# EAGLE library part PIC18F4X2 (library !testpic)
Pic Microcontroller
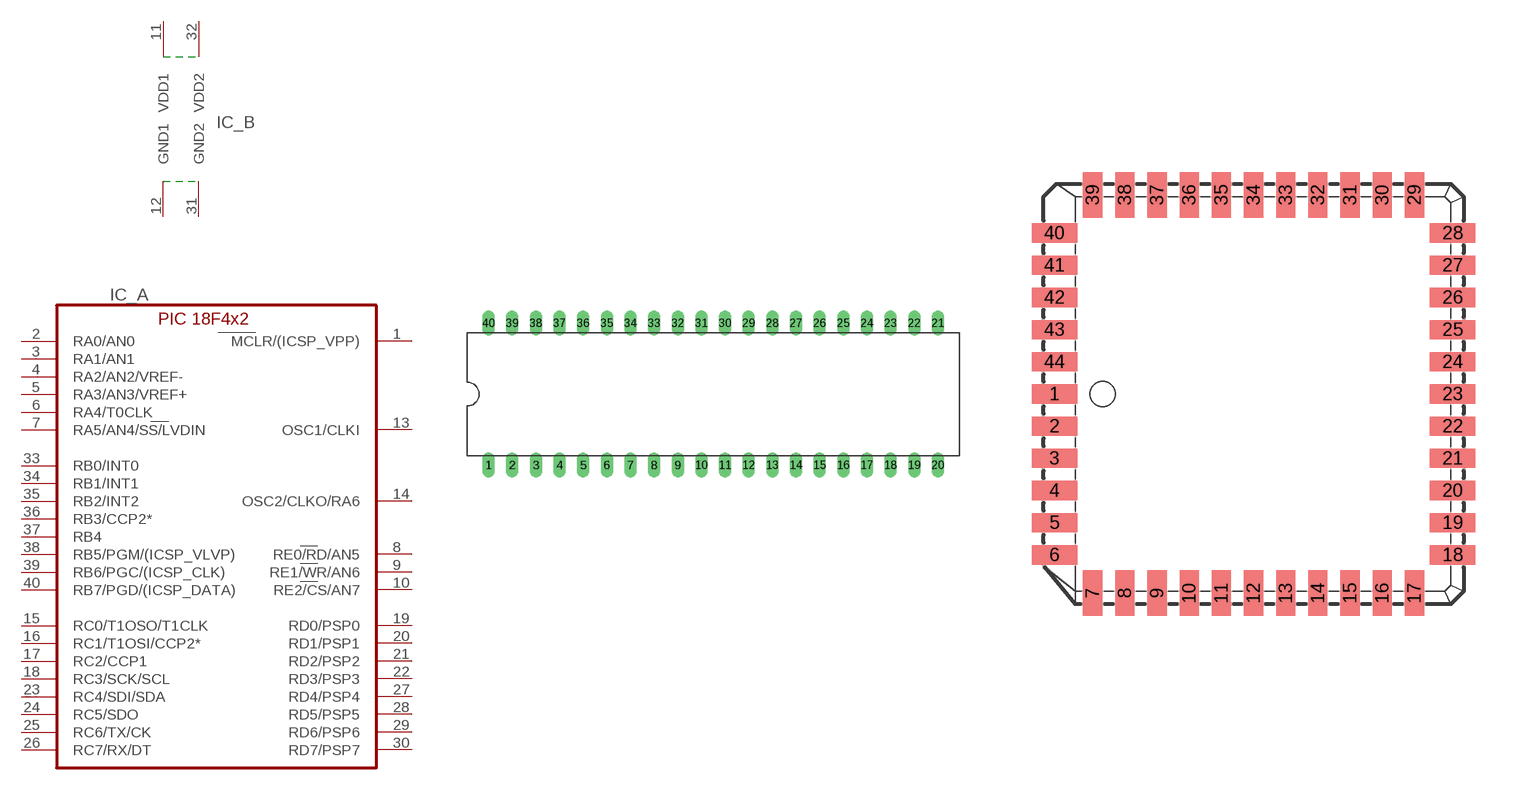
[diagram p0: symbol with the pads of DIL40; footprints DIL40, PLCC44]

Designator prefix IC; gates _A=PIC18F4X2 _B=VCCGND

## PIC18F4X2DIL40  [DIL40]
1  _A:MCLR/(ICSP_VPP)  pwr
2  _A:RA0/AN0
3  _A:RA1/AN1
4  _A:RA2/AN2/VREF-
5  _A:RA3/AN3/VREF+
6  _A:RA4/T0CLK
7  _A:RA5/AN4/SS/LVDIN
8  _A:RE0/RD/AN5
9  _A:RE1/WR/AN6
10  _A:RE2/CS/AN7
11  _B:VDD1  pwr
12  _B:GND1  pwr
13  _A:OSC1/CLKI  pwr
14  _A:OSC2/CLKO/RA6  pwr
15  _A:RC0/T1OSO/T1CLK
16  _A:RC1/T1OSI/CCP2*
17  _A:RC2/CCP1
18  _A:RC3/SCK/SCL
19  _A:RD0/PSP0
20  _A:RD1/PSP1
21  _A:RD2/PSP2
22  _A:RD3/PSP3
23  _A:RC4/SDI/SDA
24  _A:RC5/SDO
25  _A:RC6/TX/CK
26  _A:RC7/RX/DT
27  _A:RD4/PSP4
28  _A:RD5/PSP5
29  _A:RD6/PSP6
30  _A:RD7/PSP7
31  _B:GND2  pwr
32  _B:VDD2  pwr
33  _A:RB0/INT0
34  _A:RB1/INT1
35  _A:RB2/INT2
36  _A:RB3/CCP2*
37  _A:RB4
38  _A:RB5/PGM/(ICSP_VLVP)
39  _A:RB6/PGC/(ICSP_CLK)
40  _A:RB7/PGD/(ICSP_DATA)

## PIC18F4X2PLCC44  [PLCC44]
2  _A:MCLR/(ICSP_VPP)  pwr
3  _A:RA0/AN0
4  _A:RA1/AN1
5  _A:RA2/AN2/VREF-
6  _A:RA3/AN3/VREF+
7  _A:RA4/T0CLK
8  _A:RA5/AN4/SS/LVDIN
9  _A:RE0/RD/AN5
10  _A:RE1/WR/AN6
11  _A:RE2/CS/AN7
12  _B:VDD1  pwr
13  _B:GND1  pwr
14  _A:OSC1/CLKI  pwr
15  _A:OSC2/CLKO/RA6  pwr
16  _A:RC0/T1OSO/T1CLK
18  _A:RC1/T1OSI/CCP2*
19  _A:RC2/CCP1
20  _A:RC3/SCK/SCL
21  _A:RD0/PSP0
22  _A:RD1/PSP1
23  _A:RD2/PSP2
24  _A:RD3/PSP3
25  _A:RC4/SDI/SDA
26  _A:RC5/SDO
27  _A:RC6/TX/CK
29  _A:RC7/RX/DT
30  _A:RD4/PSP4
31  _A:RD5/PSP5
32  _A:RD6/PSP6
33  _A:RD7/PSP7
34  _B:GND2  pwr
35  _B:VDD2  pwr
36  _A:RB0/INT0
37  _A:RB1/INT1
38  _A:RB2/INT2
39  _A:RB3/CCP2*
41  _A:RB4
42  _A:RB5/PGM/(ICSP_VLVP)
43  _A:RB6/PGC/(ICSP_CLK)
44  _A:RB7/PGD/(ICSP_DATA)

## PIC18F4X2PLCC_SMD-SOCKET  [PLCCSM44]
Pads as for PLCC44

## PIC18F4X2PLCC_SOCKET  [S44]
Pads as for PLCC44

## PIC18F4X2TQFP44  [TQFP44]
1  _A:RC7/RX/DT
2  _A:RD4/PSP4
3  _A:RD5/PSP5
4  _A:RD6/PSP6
5  _A:RD7/PSP7
6  _B:GND1  pwr
7  _B:VDD1  pwr
8  _A:RB0/INT0
9  _A:RB1/INT1
10  _A:RB2/INT2
11  _A:RB3/CCP2*
14  _A:RB4
15  _A:RB5/PGM/(ICSP_VLVP)
16  _A:RB6/PGC/(ICSP_CLK)
17  _A:RB7/PGD/(ICSP_DATA)
18  _A:MCLR/(ICSP_VPP)  pwr
19  _A:RA0/AN0
20  _A:RA1/AN1
21  _A:RA2/AN2/VREF-
22  _A:RA3/AN3/VREF+
23  _A:RA4/T0CLK
24  _A:RA5/AN4/SS/LVDIN
25  _A:RE0/RD/AN5
26  _A:RE1/WR/AN6
27  _A:RE2/CS/AN7
28  _B:VDD2  pwr
29  _B:GND2  pwr
30  _A:OSC1/CLKI  pwr
31  _A:OSC2/CLKO/RA6  pwr
32  _A:RC0/T1OSO/T1CLK
35  _A:RC1/T1OSI/CCP2*
36  _A:RC2/CCP1
37  _A:RC3/SCK/SCL
38  _A:RD0/PSP0
39  _A:RD1/PSP1
40  _A:RD2/PSP2
41  _A:RD3/PSP3
42  _A:RC4/SDI/SDA
43  _A:RC5/SDO
44  _A:RC6/TX/CK

## Footprint DIL40 (pad centres in mm)
Dual In Line
drill 0.813 long: 1 -24.13,-7.62; 2 -21.59,-7.62; 3 -19.05,-7.62; 4 -16.51,-7.62; 5 -13.97,-7.62; 6 -11.43,-7.62; 7 -8.89,-7.62; 8 -6.35,-7.62; 9 -3.81,-7.62; 10 -1.27,-7.62; 11 1.27,-7.62; 12 3.81,-7.62; 13 6.35,-7.62; 14 8.89,-7.62; 15 11.43,-7.62; 16 13.97,-7.62; 17 16.51,-7.62; 18 19.05,-7.62; 19 21.59,-7.62; 20 24.13,-7.62; 21 24.13,7.62; 22 21.59,7.62; 23 19.05,7.62; 24 16.51,7.62; 25 13.97,7.62; 26 11.43,7.62; 27 8.89,7.62; 28 6.35,7.62; 29 3.81,7.62; 30 1.27,7.62; 31 -1.27,7.62; 32 -3.81,7.62; 33 -6.35,7.62; 34 -8.89,7.62; 35 -11.43,7.62; 36 -13.97,7.62; 37 -16.51,7.62; 38 -19.05,7.62; 39 -21.59,7.62; 40 -24.13,7.62

## Footprint PLCC44 (pad centres in mm)
Plastic J-Leaded Chip Carrier
smd 1.8 x 0.76: 1 -7.86,0; 2 -7.86,-1.27; 3 -7.86,-2.54; 4 -7.86,-3.81; 5 -7.86,-5.08; 6 -7.86,-6.35; 18 7.86,-6.35; 19 7.86,-5.08; 20 7.86,-3.81; 21 7.86,-2.54; 22 7.86,-1.27; 23 7.86,0; 24 7.86,1.27; 25 7.86,2.54; 26 7.86,3.81; 27 7.86,5.08; 28 7.86,6.35; 40 -7.86,6.35; 41 -7.86,5.08; 42 -7.86,3.81; 43 -7.86,2.54; 44 -7.86,1.27
smd 0.76 x 1.8: 7 -6.35,-7.86; 8 -5.08,-7.86; 9 -3.81,-7.86; 10 -2.54,-7.86; 11 -1.27,-7.86; 12 0,-7.86; 13 1.27,-7.86; 14 2.54,-7.86; 15 3.81,-7.86; 16 5.08,-7.86; 17 6.35,-7.86; 29 6.35,7.86; 30 5.08,7.86; 31 3.81,7.86; 32 2.54,7.86; 33 1.27,7.86; 34 0,7.86; 35 -1.27,7.86; 36 -2.54,7.86; 37 -3.81,7.86; 38 -5.08,7.86; 39 -6.35,7.86

## Footprint PLCCSM44 (pad centres in mm)
PLCC SOCKET
smd 0.66 x 2.591: 1 0,8.89; 2 -1.27,8.89; 3 -2.54,8.89; 4 -3.81,8.89; 5 -5.08,8.89; 6 -6.35,8.89; 18 -6.35,-8.89; 19 -5.08,-8.89; 20 -3.81,-8.89; 21 -2.54,-8.89; 22 -1.27,-8.89; 23 0,-8.89; 24 1.27,-8.89; 25 2.54,-8.89; 26 3.81,-8.89; 27 5.08,-8.89; 28 6.35,-8.89; 40 6.35,8.89; 41 5.08,8.89; 42 3.81,8.89; 43 2.54,8.89; 44 1.27,8.89
smd 2.591 x 0.66: 7 -8.89,6.35; 8 -8.89,5.08; 9 -8.89,3.81; 10 -8.89,2.54; 11 -8.89,1.27; 12 -8.89,0; 13 -8.89,-1.27; 14 -8.89,-2.54; 15 -8.89,-3.81; 16 -8.89,-5.08; 17 -8.89,-6.35; 29 8.89,-6.35; 30 8.89,-5.08; 31 8.89,-3.81; 32 8.89,-2.54; 33 8.89,-1.27; 34 9.017,0; 35 8.89,1.27; 36 8.89,2.54; 37 8.89,3.81; 38 8.89,5.08; 39 8.89,6.35

## Footprint S44 (pad centres in mm)
PLCC SOCKET
drill 0.813 round: 1 1.27,6.35
drill 0.813 octagon: 2 -1.27,8.89; 3 -1.27,6.35; 4 -3.81,8.89; 5 -3.81,6.35; 6 -6.35,8.89; 7 -8.89,6.35; 8 -6.35,6.35; 9 -8.89,3.81; 10 -6.35,3.81; 11 -8.89,1.27; 12 -6.35,1.27; 13 -8.89,-1.27; 14 -6.35,-1.27; 15 -8.89,-3.81; 16 -6.35,-3.81; 17 -8.89,-6.35; 18 -6.35,-8.89; 19 -6.35,-6.35; 20 -3.81,-8.89; 21 -3.81,-6.35; 22 -1.27,-8.89; 23 -1.27,-6.35; 24 1.27,-8.89; 25 1.27,-6.35; 26 3.81,-8.89; 27 3.81,-6.35; 28 6.35,-8.89; 29 8.89,-6.35; 30 6.35,-6.35; 31 8.89,-3.81; 32 6.35,-3.81; 33 8.89,-1.27; 34 6.35,-1.27; 35 8.89,1.27; 36 6.35,1.27; 37 8.89,3.81; 38 6.35,3.81; 39 8.89,6.35; 40 6.35,8.89; 41 6.35,6.35; 42 3.81,8.89; 43 3.81,6.35; 44 1.27,8.89

## Footprint TQFP44 (pad centres in mm)
Thin Plasic Quad Flat Package
smd 1.5 x 0.5: 1 -5.8,4; 2 -5.8,3.2; 3 -5.8,2.4; 4 -5.8,1.6; 5 -5.8,0.8; 6 -5.8,0; 7 -5.8,-0.8; 8 -5.8,-1.6; 9 -5.8,-2.4; 10 -5.8,-3.2; 11 -5.8,-4; 23 5.8,-4; 24 5.8,-3.2; 25 5.8,-2.4; 26 5.8,-1.6; 27 5.8,-0.8; 28 5.8,0; 29 5.8,0.8; 30 5.8,1.6; 31 5.8,2.4; 32 5.8,3.2; 33 5.8,4
smd 0.5 x 1.5: 12 -4,-5.8; 13 -3.2,-5.8; 14 -2.4,-5.8; 15 -1.6,-5.8; 16 -0.8,-5.8; 17 0,-5.8; 18 0.8,-5.8; 19 1.6,-5.8; 20 2.4,-5.8; 21 3.2,-5.8; 22 4,-5.8; 34 4,5.8; 35 3.2,5.8; 36 2.4,5.8; 37 1.6,5.8; 38 0.8,5.8; 39 0,5.8; 40 -0.8,5.8; 41 -1.6,5.8; 42 -2.4,5.8; 43 -3.2,5.8; 44 -4,5.8